# Altium footprint library Caps.TH.PcbLib: 50 footprints (part 4 of 4)
Each footprint in its own frame and in the unit in brackets; x right, y up, seen from the top. Pads: shape width x height; smd on the part's side, far side on the other; paste and mask are expansions set on the pad; w line width, h text height; cw(c..) or ccw(c..) is an arc to the next point about the centre after c.
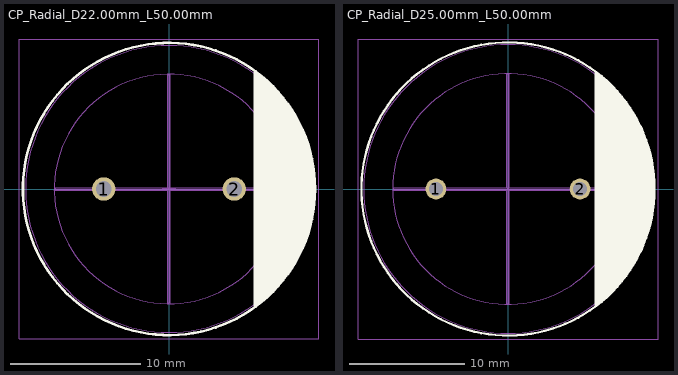
[diagram p3: the footprints below, top view; thin cyan lines are the x and y axes]

## CP_Radial_D22.00mm_L50.00mm [mm] "Radial Capacitor, Diameter 22.00mm, Length 50.00mm, Pitch 10.00mm"
height 50
pads (2):
  round 1.8 hole 1.2: 1(-5,0) 2(5,0)
Top Overlay:
  circle w0.2: c0,0 r11.2
  region: 6.5,9.1 6.5,-9.1 6.934,-8.792 7.74,-8.096 8.476,-7.326 9.135,-6.489 9.711,-5.594 10.2,-4.648 10.596,-3.66 10.897,-2.638 11.099,-1.592 11.2,-0.532 11.2,0.532 11.099,1.592 10.897,2.638 10.596,3.66 10.2,4.648 9.711,5.594 9.135,6.489 8.476,7.326 7.74,8.096 6.934,8.792
Mechanical 1:
  circle w0.05: c0,0 r8.8
  circle w0.05: c0,0 r11
  lines w0.05: 6.869,-5.5 8.886,-5.5 9.526,-5.5 ; 6.869,5.5 8.886,5.5 9.526,5.5 ; -8.7,0 -8.799,-0.1 -0.1,-0.1 ; -8.7,0 -8.799,0.1 -0.1,0.1 ; -8.7,0 8.7,0 ; -0.1,-0.1 -0.1,-8.799 0,-8.7 ; -0.1,-0.1 0.1,0.1 ; -0.1,0.1 0.1,-0.1 ; -0.1,0.1 -0.1,8.799 0,8.7 ; 0,-8.7 0.1,-8.799 0.1,-0.1 ; 0,-8.7 0,8.7 ; 0,8.7 0.1,8.799 0.1,0.1 ; 0.1,-0.1 8.799,-0.1 8.7,0 ; 0.1,0.1 8.799,0.1 8.7,0
Mechanical 15:
  lines w0.05: -11.5,-11.5 11.5,-11.5 11.5,11.5 -11.5,11.5 -11.5,-11.5
  lines w0.1: -0.5,0 0.5,0 ; 0,-0.5 0,0.5
3D body "Capacitor_Radial_D22.00mm_L50.00mm_P10.00mm.STEP": height 50, standoff -3.2, extent -10.974,-11 11,11

## CP_Radial_D25.00mm_L50.00mm [mm] "Radial Capacitor, Diameter 25.00mm, Length 50.00mm, Pitch 12.50mm"
height 50
pads (2):
  round 1.8 hole 1.2: 1(-6.25,0) 2(6.25,0)
Top Overlay:
  circle w0.2: c0,0 r12.7
  region: 7.5,10.2 7.5,-10.2 7.901,-9.909 8.655,-9.266 9.356,-8.565 9.999,-7.812 10.582,-7.011 11.1,-6.166 11.55,-5.283 11.929,-4.368 12.236,-3.425 12.467,-2.462 12.622,-1.483 12.7,-0.495 12.7,0.495 12.622,1.483 12.467,2.462 12.236,3.425 11.929,4.368 11.55,5.283 11.1,6.166 10.582,7.011 9.999,7.812 9.356,8.565 8.655,9.266 7.901,9.909
Mechanical 1:
  circle w0.05: c0,0 r12.5
  circle w0.05: c0,0 r10
  lines w0.05: 7.806,-6.25 10.097,-6.25 10.825,-6.25 ; 7.806,6.25 10.097,6.25 10.825,6.25 ; -9.9,0 9.9,0 ; -9.9,0 -9.999,0.1 -0.1,0.1 ; -9.9,0 -9.999,-0.1 -0.1,-0.1 ; -0.1,-0.1 0.1,0.1 ; -0.1,-0.1 -0.1,-9.999 0,-9.9 ; -0.1,0.1 -0.1,9.999 0,9.9 ; -0.1,0.1 0.1,-0.1 ; 0,-9.9 0,9.9 ; 0,-9.9 0.1,-9.999 0.1,-0.1 ; 0,9.9 0.1,9.999 0.1,0.1 ; 0.1,-0.1 9.999,-0.1 9.9,0 ; 0.1,0.1 9.999,0.1 9.9,0
Mechanical 15:
  lines w0.05: -13,-13 13,-13 13,13 -13,13 -13,-13
  lines w0.1: -0.5,0 0.5,0 ; 0,-0.5 0,0.5
3D body "Capacitor_Radial_D25.00mm_L50.00mm_P12.50mm.STEP": height 50, standoff -3.2, extent -12.484,-12.5 12.5,12.5